# EAGLE library part 50224-024 (library con-aces-50224-series)
ACES CONNECTORS 50224 SERIES Aces Connectors 50224 <https://www.acesconn.com/tw/series/50224-xxxxx-xxx/3165>
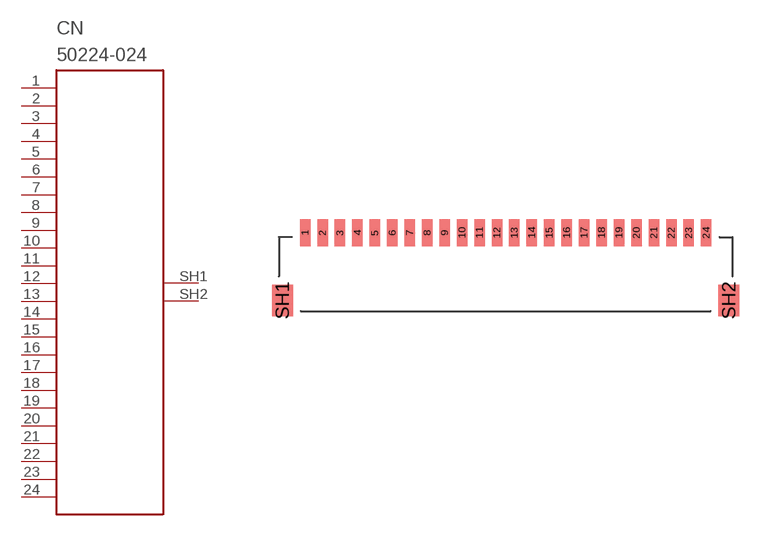
[diagram p18: symbol with the pads of 50224-024; footprint 50224-024]

Designator prefix CN

## 50224-024  [50224-024]
1  1
2  2
3  3
4  4
5  5
6  6
7  7
8  8
9  9
10  10
11  11
12  12
13  13
14  14
15  15
16  16
17  17
18  18
19  19
20  20
21  21
22  22
23  23
24  24
SH1  SH1
SH2  SH2

## Footprint 50224-024 (pad centres in mm)
smd 0.6 x 1.55: 1 -11.5,0; 2 -10.5,0; 3 -9.5,0; 4 -8.5,0; 5 -7.5,0; 6 -6.5,0; 7 -5.5,0; 8 -4.5,0; 9 -3.5,0; 10 -2.5,0; 11 -1.5,0; 12 -0.5,0; 13 0.5,0; 14 1.5,0; 15 2.5,0; 16 3.5,0; 17 4.5,0; 18 5.5,0; 19 6.5,0; 20 7.5,0; 21 8.5,0; 22 9.5,0; 23 10.5,0; 24 11.5,0
smd 1.2 x 1.8: SH1 -12.8,-3.875; SH2 12.8,-3.875